# EAGLE library part 1-84953-1 (library Tyco Connector)
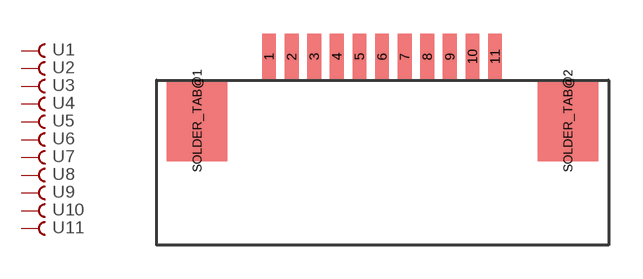
[diagram p0: symbol with the pads of 1-84953-1; footprint 1-84953-1]

Designator prefix -; gates 1=P 2=P 3=P 4=P 5=P 6=P 7=P 8=P 9=P 10=P 11=P

## 1-84953-1  [1-84953-1]
1  1:CONN_FLAT  pas
2  2:CONN_FLAT  pas
3  3:CONN_FLAT  pas
4  4:CONN_FLAT  pas
5  5:CONN_FLAT  pas
6  6:CONN_FLAT  pas
7  7:CONN_FLAT  pas
8  8:CONN_FLAT  pas
9  9:CONN_FLAT  pas
10  10:CONN_FLAT  pas
11  11:CONN_FLAT  pas

## Footprint 1-84953-1 (pad centres in mm)
smd 0.61 x 2: 1 2.38,4.14; 2 3.38,4.14; 3 4.38,4.14; 4 5.38,4.14; 5 6.38,4.14; 6 7.38,4.14; 7 8.38,4.14; 8 9.38,4.14; 9 10.38,4.14; 10 11.38,4.14; 11 12.38,4.14
smd 2.68 x 3.6: SOLDER_TAB@1 -0.8,1.3; SOLDER_TAB@2 15.6,1.3